# Altium footprint library ICs.PcbLib: 86 footprints (part 3 of 6)
Each footprint in its own frame and in the unit in brackets; x right, y up, seen from the top. Pads: shape width x height; smd on the part's side, far side on the other; paste and mask are expansions set on the pad; w line width, h text height; cw(c..) or ccw(c..) is an arc to the next point about the centre after c.
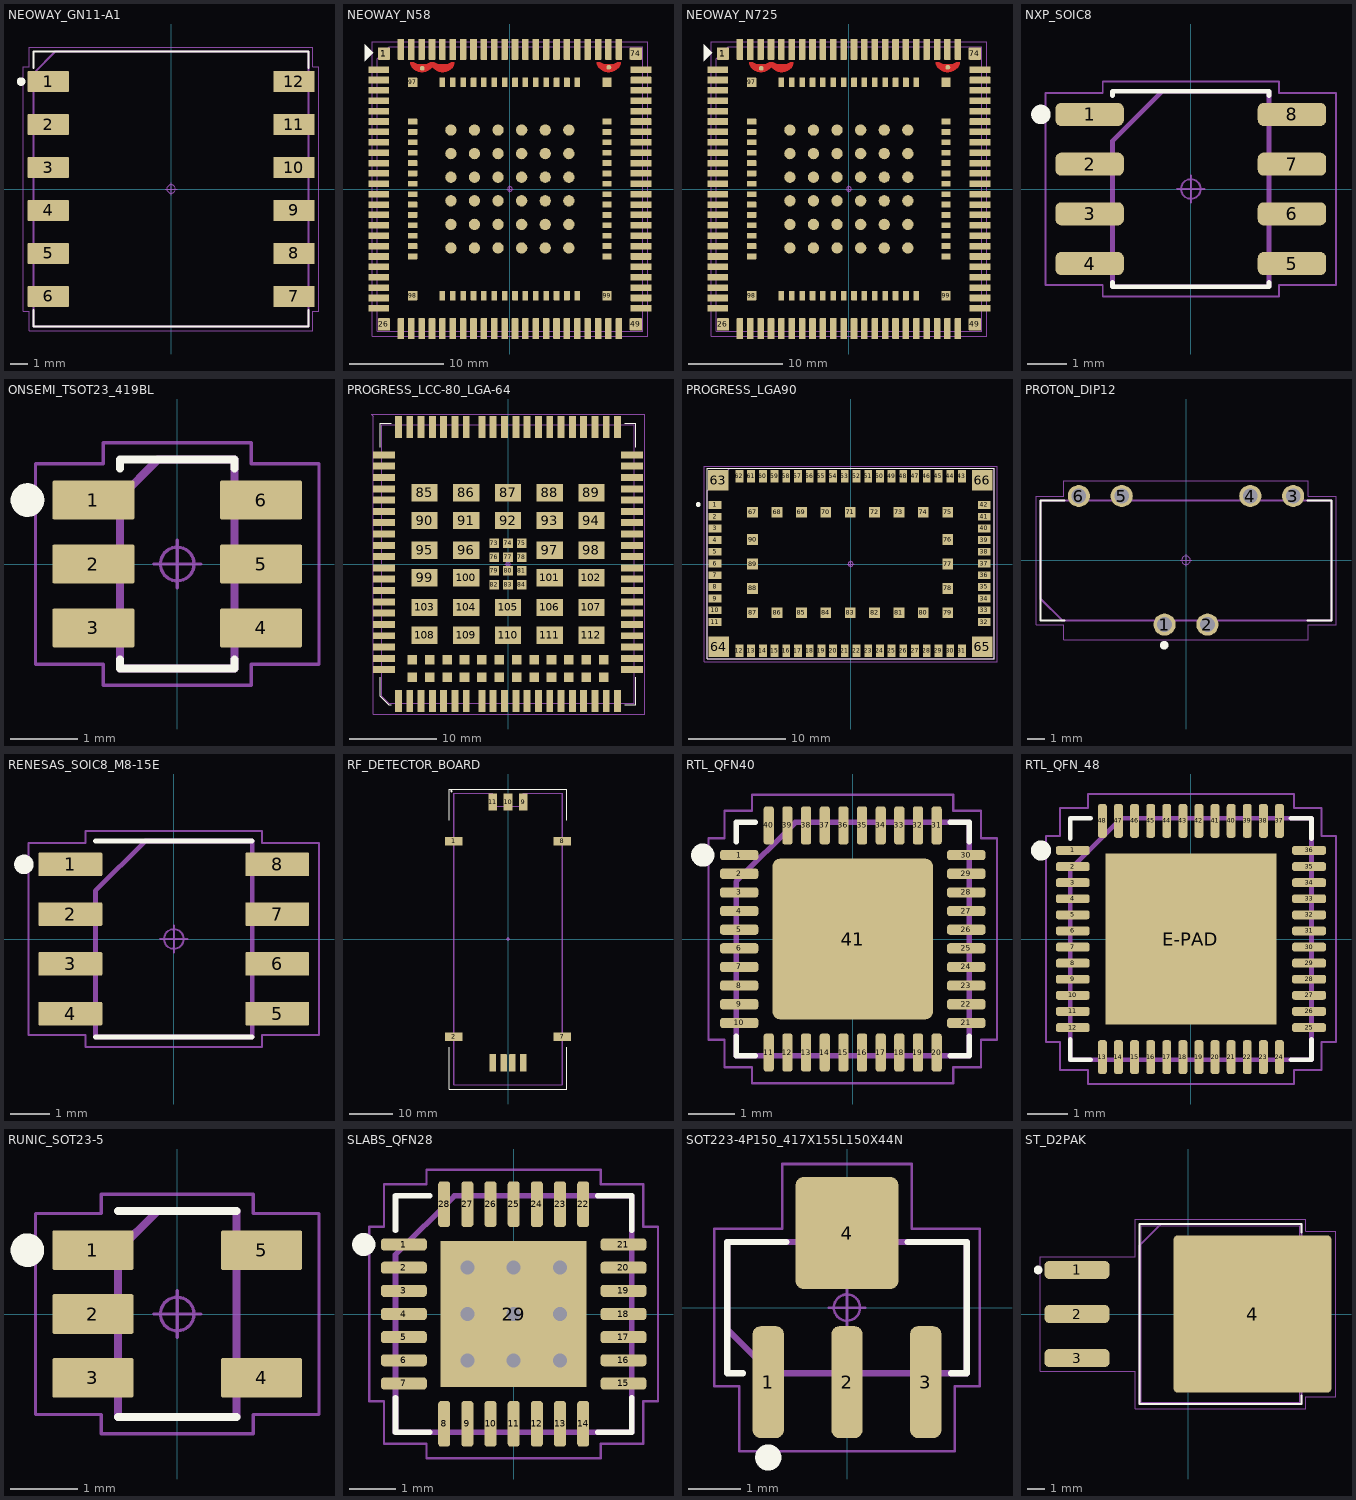
[diagram p2: the footprints below, top view; thin cyan lines are the x and y axes]

## NEOWAY_GN11-A1 [mm] "Small Outline No-Lead (SON), 2.50 mm pitch; 12 pin, 16.00 mm L X 16.00 mm W X 7.00 mm H body"
pads (12):
  rrect10% 2.41x1.23 smd: 1(-7.15,6.25) 2(-7.15,3.75) 3(-7.15,1.25) 4(-7.15,-1.25) 5(-7.15,-3.75) 6(-7.15,-6.25) 7(7.15,-6.25) 8(7.15,-3.75) 9(7.15,-1.25) 10(7.15,1.25) 11(7.15,3.75) 12(7.15,6.25)
Top Overlay:
  circle w0.25: c-8.725,6.25 r0.125
  lines w0.12: -8,-7.045 -8,-8 8,-8 8,-7.045 ; -8,7.045 -8,8 8,8 8,7.045
Mechanical 11:
  lines w0.12: -8,-8 -8,6.73 -6.73,8 8,8 8,-8 -8,-8
  text ".Designator" at -4.579,-0.46 h2.03
Mechanical 15:
  circle w0.05: c0,0 r0.25
  lines w0.05: -0.35,0 0.35,0 ; 0,-0.35 0,0.35 ; -8.605,-7.115 -8.605,7.115 -8.25,7.115 -8.25,8.25 8.25,8.25 8.25,7.115 8.605,7.115 8.605,-7.115 8.25,-7.115 8.25,-8.25 -8.25,-8.25 -8.25,-7.115 -8.605,-7.115
3D body "NEOWAY_GN11-A1.STEP": height 7, standoff 0, extent -8.05,-8 8.05,8

## NEOWAY_N58 [mm] "LGA modem"
height 2.65
pads (194):
  rrect10% 1.3x1.3 smd: 1(-13.35,14.35) 26(-13.35,-14.35) 49(13.35,-14.35) 74(13.35,14.35)
  rrect10% 2.2x0.7 smd: 2(-13.9,12.65) 3(-13.9,11.55) 4(-13.9,10.45) 5(-13.9,9.35) 6(-13.9,8.25) 7(-13.9,7.15) 8(-13.9,6.05) 9(-13.9,4.95) 10(-13.9,3.85) 11(-13.9,2.75) 12(-13.9,1.65) 13(-13.9,0.55) 14(-13.9,-0.55) 15(-13.9,-1.65) 16(-13.9,-2.75) 17(-13.9,-3.85) 18(-13.9,-4.95) 19(-13.9,-6.05) 20(-13.9,-7.15) 21(-13.9,-8.25) 22(-13.9,-9.35) 23(-13.9,-10.45) 24(-13.9,-11.55) 25(-13.9,-12.65) 50(13.9,-12.65) 51(13.9,-11.55) 52(13.9,-10.45) 53(13.9,-9.35) 54(13.9,-8.25) 55(13.9,-7.15) 56(13.9,-6.05) 57(13.9,-4.95) 58(13.9,-3.85) 59(13.9,-2.75) 60(13.9,-1.65) 61(13.9,-0.55) 62(13.9,0.55) 63(13.9,1.65) 64(13.9,2.75) 65(13.9,3.85) 66(13.9,4.95) 67(13.9,6.05) 68(13.9,7.15) 69(13.9,8.25) 70(13.9,9.35) 71(13.9,10.45) 72(13.9,11.55) 73(13.9,12.65)
  rrect10% 0.7x2.2 smd: 27(-11.55,-14.8) 28(-10.45,-14.8) 29(-9.35,-14.8) 30(-8.25,-14.8) 31(-7.15,-14.8) 32(-6.05,-14.8) 33(-4.95,-14.8) 34(-3.85,-14.8) 35(-2.75,-14.8) 36(-1.65,-14.8) 37(-0.55,-14.8) 38(0.55,-14.8) 39(1.65,-14.8) 40(2.75,-14.8) 41(3.85,-14.8) 42(4.95,-14.8) 43(6.05,-14.8) 44(7.15,-14.8) 45(8.25,-14.8) 46(9.35,-14.8) 47(10.45,-14.8) 48(11.55,-14.8) 75(11.55,14.8) 76(10.45,14.8) 77(9.35,14.8) 78(8.25,14.8) 79(7.15,14.8) 80(6.05,14.8) 81(4.95,14.8) 82(3.85,14.8) 83(2.75,14.8) 84(1.65,14.8) 85(0.55,14.8) 86(-0.55,14.8) 87(-1.65,14.8) 88(-2.75,14.8) 89(-3.85,14.8) 90(-4.95,14.8) 91(-6.05,14.8) 92(-7.15,14.8) 93(-8.25,14.8) 94(-9.35,14.8) 95(-10.45,14.8) 96(-11.55,14.8)
  rrect10% 1x1 smd paste-0.15: 97(-10.3,11.3) 98(-10.3,-11.3) 99(10.3,-11.3) 100(10.3,11.3)
  rrect10% 1x0.6 smd paste-0.05: 101(-10.3,7.15) 102(-10.3,6.05) 103(-10.3,4.95) 104(-10.3,3.85) 105(-10.3,2.75) 106(-10.3,1.65) 107(-10.3,0.55) 108(-10.3,-0.55) 109(-10.3,-1.65) 110(-10.3,-2.75) 111(-10.3,-3.85) 112(-10.3,-4.95) 113(-10.3,-6.05) 114(-10.3,-7.15) 129(10.3,-7.15) 130(10.3,-6.05) 131(10.3,-4.95) 132(10.3,-3.85) 133(10.3,-2.75) 134(10.3,-1.65) 135(10.3,-0.55) 136(10.3,0.55) 137(10.3,1.65) 138(10.3,2.75) 139(10.3,3.85) 140(10.3,4.95) 141(10.3,6.05) 142(10.3,7.15)
  rrect10% 0.6x1 smd paste-0.05: 115(-7.15,-11.3) 116(-6.05,-11.3) 117(-4.95,-11.3) 118(-3.85,-11.3) 119(-2.75,-11.3) 120(-1.65,-11.3) 121(-0.55,-11.3) 122(0.55,-11.3) 123(1.65,-11.3) 124(2.75,-11.3) 125(3.85,-11.3) 126(4.95,-11.3) 127(6.05,-11.3) 128(7.15,-11.3) 143(7.15,11.3) 144(6.05,11.3) 145(4.95,11.3) 146(3.85,11.3) 147(2.75,11.3) 148(1.65,11.3) 149(0.55,11.3) 150(-0.55,11.3) 151(-1.65,11.3) 152(-2.75,11.3) 153(-3.85,11.3) 154(-4.95,11.3) 155(-6.05,11.3) 156(-7.15,11.3)
  round 1.2 smd paste-0.15: 157(-6.25,6.25) 158(-6.25,3.75) 159(-6.25,1.25) 160(-6.25,-1.25) 161(-6.25,-3.75) 162(-6.25,-6.25) 163(-3.75,-6.25) 164(-1.25,-6.25) 165(1.25,-6.25) 166(3.75,-6.25) 167(6.25,-6.25) 168(6.25,-3.75) 169(6.25,-1.25) 170(6.25,1.25) 171(6.25,3.75) 172(6.25,6.25) 173(3.75,6.25) 174(1.25,6.25) 175(-1.25,6.25) 176(-3.75,6.25) 177(-3.75,3.75) 178(-3.75,1.25) 179(-3.75,-1.25) 180(-3.75,-3.75) 181(-1.25,-3.75) 182(1.25,-3.75) 183(3.75,-3.75) 184(3.75,-1.25) 185(3.75,1.25) 186(3.75,3.75) 187(1.25,3.75) 188(-1.25,3.75) 189(-1.25,1.25) 190(-1.25,-1.25) 191(1.25,-1.25) 192(1.25,1.25)
  round 0.5 smd paste-5: 193(-9.3,12.8) 194(10.5,12.9)
Top Layer:
  region: -10.57,13.43 -10.208,13.43 -10.105,13.377 -9.89,13.291 -9.666,13.233 -9.436,13.204 -9.204,13.204 -8.974,13.233 -8.75,13.291 -8.535,13.377 -8.432,13.43 -8.07,13.43 -8.07,13.22 -8.12,13.096 -8.268,12.874 -8.456,12.684 -8.678,12.535 -8.924,12.432 -9.186,12.38 -9.454,12.38 -9.716,12.432 -9.962,12.535 -10.184,12.684 -10.372,12.874 -10.52,13.096 -10.57,13.22
  region: -8.37,13.43 -8.008,13.43 -7.905,13.377 -7.69,13.291 -7.466,13.233 -7.236,13.204 -7.004,13.204 -6.774,13.233 -6.55,13.291 -6.335,13.377 -6.232,13.43 -5.87,13.43 -5.87,13.22 -5.92,13.096 -6.068,12.874 -6.256,12.684 -6.478,12.535 -6.724,12.432 -6.986,12.38 -7.254,12.38 -7.516,12.432 -7.762,12.535 -7.984,12.684 -8.172,12.874 -8.32,13.096 -8.37,13.22
  region: 9.23,13.43 9.592,13.43 9.695,13.377 9.91,13.291 10.134,13.233 10.364,13.204 10.596,13.204 10.826,13.233 11.05,13.291 11.265,13.377 11.368,13.43 11.73,13.43 11.73,13.22 11.68,13.096 11.532,12.874 11.344,12.684 11.122,12.535 10.876,12.432 10.614,12.38 10.346,12.38 10.084,12.432 9.838,12.535 9.616,12.684 9.428,12.874 9.28,13.096 9.23,13.22
Top Overlay:
  region: -14.495,14.445 -15.392,15.342 -15.392,13.548
Top Paste:
  rectangle: 9.833,12.61 11.067,13.11
  rectangle: -7.767,12.61 -6.533,13.11
  rectangle: -9.967,12.61 -8.733,13.11
Mechanical 11:
  lines w0.12: -14.08,-15.08 14.08,-15.08 14.08,15.08 -12.81,15.08 -14.08,13.81 -14.08,-15.08
  text ".Designator" at -6.763,-0.679 h3
Mechanical 15:
  circle w0.05: c0,0 r0.25
  lines w0.05: -0.35,0 0.35,0 ; 0,-0.35 0,0.35 ; -14.6,-15.6 14.6,-15.6 14.6,15.6 -14.6,15.6 -14.6,-15.6
3D body "N58.step": height 3, standoff 0, extent -14,-14.986 14,15.014
3D body: height 3.05, standoff 2.65, extent 7.7,10.6 11.2,13.1
3D body: height 3.05, standoff 2.65, extent 7.7,6.995 11.2,9.5
3D body: height 3.05, standoff 2.65, extent 9.2,4.5 11.2,6.5
3D body: height 3.05, standoff 2.65, extent 7.71,4.498 9.71,6.498

## NEOWAY_N725 [mm] "LGA-192 modem"
pads (194):
  rrect10% 1.3x1.3 smd: 1(-13.35,14.35) 26(-13.35,-14.35) 49(13.35,-14.35) 74(13.35,14.35)
  rrect10% 2.2x0.7 smd: 2(-13.9,12.65) 3(-13.9,11.55) 4(-13.9,10.45) 5(-13.9,9.35) 6(-13.9,8.25) 7(-13.9,7.15) 8(-13.9,6.05) 9(-13.9,4.95) 10(-13.9,3.85) 11(-13.9,2.75) 12(-13.9,1.65) 13(-13.9,0.55) 14(-13.9,-0.55) 15(-13.9,-1.65) 16(-13.9,-2.75) 17(-13.9,-3.85) 18(-13.9,-4.95) 19(-13.9,-6.05) 20(-13.9,-7.15) 21(-13.9,-8.25) 22(-13.9,-9.35) 23(-13.9,-10.45) 24(-13.9,-11.55) 25(-13.9,-12.65) 50(13.9,-12.65) 51(13.9,-11.55) 52(13.9,-10.45) 53(13.9,-9.35) 54(13.9,-8.25) 55(13.9,-7.15) 56(13.9,-6.05) 57(13.9,-4.95) 58(13.9,-3.85) 59(13.9,-2.75) 60(13.9,-1.65) 61(13.9,-0.55) 62(13.9,0.55) 63(13.9,1.65) 64(13.9,2.75) 65(13.9,3.85) 66(13.9,4.95) 67(13.9,6.05) 68(13.9,7.15) 69(13.9,8.25) 70(13.9,9.35) 71(13.9,10.45) 72(13.9,11.55) 73(13.9,12.65)
  rrect10% 0.7x2.2 smd: 27(-11.55,-14.8) 28(-10.45,-14.8) 29(-9.35,-14.8) 30(-8.25,-14.8) 31(-7.15,-14.8) 32(-6.05,-14.8) 33(-4.95,-14.8) 34(-3.85,-14.8) 35(-2.75,-14.8) 36(-1.65,-14.8) 37(-0.55,-14.8) 38(0.55,-14.8) 39(1.65,-14.8) 40(2.75,-14.8) 41(3.85,-14.8) 42(4.95,-14.8) 43(6.05,-14.8) 44(7.15,-14.8) 45(8.25,-14.8) 46(9.35,-14.8) 47(10.45,-14.8) 48(11.55,-14.8) 75(11.55,14.8) 76(10.45,14.8) 77(9.35,14.8) 78(8.25,14.8) 79(7.15,14.8) 80(6.05,14.8) 81(4.95,14.8) 82(3.85,14.8) 83(2.75,14.8) 84(1.65,14.8) 85(0.55,14.8) 86(-0.55,14.8) 87(-1.65,14.8) 88(-2.75,14.8) 89(-3.85,14.8) 90(-4.95,14.8) 91(-6.05,14.8) 92(-7.15,14.8) 93(-8.25,14.8) 94(-9.35,14.8) 95(-10.45,14.8) 96(-11.55,14.8)
  rrect10% 1x1 smd paste-0.15: 97(-10.3,11.3) 98(-10.3,-11.3) 99(10.3,-11.3) 100(10.3,11.3)
  rrect10% 1x0.6 smd paste-0.05: 101(-10.3,7.15) 102(-10.3,6.05) 103(-10.3,4.95) 104(-10.3,3.85) 105(-10.3,2.75) 106(-10.3,1.65) 107(-10.3,0.55) 108(-10.3,-0.55) 109(-10.3,-1.65) 110(-10.3,-2.75) 111(-10.3,-3.85) 112(-10.3,-4.95) 113(-10.3,-6.05) 114(-10.3,-7.15) 129(10.3,-7.15) 130(10.3,-6.05) 131(10.3,-4.95) 132(10.3,-3.85) 133(10.3,-2.75) 134(10.3,-1.65) 135(10.3,-0.55) 136(10.3,0.55) 137(10.3,1.65) 138(10.3,2.75) 139(10.3,3.85) 140(10.3,4.95) 141(10.3,6.05) 142(10.3,7.15)
  rrect10% 0.6x1 smd paste-0.05: 115(-7.15,-11.3) 116(-6.05,-11.3) 117(-4.95,-11.3) 118(-3.85,-11.3) 119(-2.75,-11.3) 120(-1.65,-11.3) 121(-0.55,-11.3) 122(0.55,-11.3) 123(1.65,-11.3) 124(2.75,-11.3) 125(3.85,-11.3) 126(4.95,-11.3) 127(6.05,-11.3) 128(7.15,-11.3) 143(7.15,11.3) 144(6.05,11.3) 145(4.95,11.3) 146(3.85,11.3) 147(2.75,11.3) 148(1.65,11.3) 149(0.55,11.3) 150(-0.55,11.3) 151(-1.65,11.3) 152(-2.75,11.3) 153(-3.85,11.3) 154(-4.95,11.3) 155(-6.05,11.3) 156(-7.15,11.3)
  round 1.2 smd paste-0.15: 157(-6.25,6.25) 158(-6.25,3.75) 159(-6.25,1.25) 160(-6.25,-1.25) 161(-6.25,-3.75) 162(-6.25,-6.25) 163(-3.75,-6.25) 164(-1.25,-6.25) 165(1.25,-6.25) 166(3.75,-6.25) 167(6.25,-6.25) 168(6.25,-3.75) 169(6.25,-1.25) 170(6.25,1.25) 171(6.25,3.75) 172(6.25,6.25) 173(3.75,6.25) 174(1.25,6.25) 175(-1.25,6.25) 176(-3.75,6.25) 177(-3.75,3.75) 178(-3.75,1.25) 179(-3.75,-1.25) 180(-3.75,-3.75) 181(-1.25,-3.75) 182(1.25,-3.75) 183(3.75,-3.75) 184(3.75,-1.25) 185(3.75,1.25) 186(3.75,3.75) 187(1.25,3.75) 188(-1.25,3.75) 189(-1.25,1.25) 190(-1.25,-1.25) 191(1.25,-1.25) 192(1.25,1.25)
  round 0.5 smd paste-5: 193(-9.3,12.8) 194(10.5,12.9)
Top Layer:
  region: 9.23,13.43 9.592,13.43 9.695,13.377 9.91,13.291 10.134,13.233 10.364,13.204 10.596,13.204 10.826,13.233 11.05,13.291 11.265,13.377 11.368,13.43 11.73,13.43 11.73,13.22 11.68,13.096 11.532,12.874 11.344,12.684 11.122,12.535 10.876,12.432 10.614,12.38 10.346,12.38 10.084,12.432 9.838,12.535 9.616,12.684 9.428,12.874 9.28,13.096 9.23,13.22
  region: -8.37,13.43 -8.008,13.43 -7.905,13.377 -7.69,13.291 -7.466,13.233 -7.236,13.204 -7.004,13.204 -6.774,13.233 -6.55,13.291 -6.335,13.377 -6.232,13.43 -5.87,13.43 -5.87,13.22 -5.92,13.096 -6.068,12.874 -6.256,12.684 -6.478,12.535 -6.724,12.432 -6.986,12.38 -7.254,12.38 -7.516,12.432 -7.762,12.535 -7.984,12.684 -8.172,12.874 -8.32,13.096 -8.37,13.22
  region: -10.57,13.43 -10.208,13.43 -10.105,13.377 -9.89,13.291 -9.666,13.233 -9.436,13.204 -9.204,13.204 -8.974,13.233 -8.75,13.291 -8.535,13.377 -8.432,13.43 -8.07,13.43 -8.07,13.22 -8.12,13.096 -8.268,12.874 -8.456,12.684 -8.678,12.535 -8.924,12.432 -9.186,12.38 -9.454,12.38 -9.716,12.432 -9.962,12.535 -10.184,12.684 -10.372,12.874 -10.52,13.096 -10.57,13.22
Top Overlay:
  region: -14.495,14.445 -15.392,15.342 -15.392,13.548
Top Paste:
  rectangle: -9.967,12.61 -8.733,13.11
  rectangle: -7.767,12.61 -6.533,13.11
  rectangle: 9.833,12.61 11.067,13.11
Mechanical 11:
  lines w0.12: -14.08,-15.08 -14.08,13.81 -12.81,15.08 14.08,15.08 14.08,-15.08 -14.08,-15.08
  text ".Designator" at -6.763,-0.679 h3
Mechanical 15:
  circle w0.05: c0,0 r0.25
  lines w0.05: -0.35,0 0.35,0 ; 0,-0.35 0,0.35 ; -14.6,-15.6 -14.6,15.6 14.6,15.6 14.6,-15.6 -14.6,-15.6
3D body: height 3.05, standoff 2.65, extent 7.85,7.464 11.35,9.818
3D body: height 3.05, standoff 2.65, extent 7.9,4.4 11.4,6.8
3D body: height 3.05, standoff 2.65, extent 7.9,1.095 11.4,3.6
3D body: height 3.05, standoff 2.65, extent 7.7,10.6 11.2,13.1
3D body "N58.step": height 3, standoff 0, extent -14,-14.986 14,15.014

## NXP_SOIC8 [mm] "Small Outline IC (SOIC), 1.27 mm pitch; 8 pin, 4.90 mm L X 3.90 mm W X 1.75 mm H body"
pads (8):
  rrect51% 1.75x0.59 smd: 1(-2.585,1.905) 2(-2.585,0.635) 3(-2.585,-0.635) 4(-2.585,-1.905) 5(2.585,-1.905) 6(2.585,-0.635) 7(2.585,0.635) 8(2.585,1.905)
Top Overlay:
  circle w0.25: c-3.83,1.905 r0.125
  lines w0.12: -2,-2.38 -2,-2.5 2,-2.5 2,-2.38 ; -2,2.38 -2,2.5 2,2.5 2,2.38
Mechanical 11:
  lines w0.12: -2,-2.5 -2,1.23 -0.73,2.5 2,2.5 2,-2.5 -2,-2.5
  text ".Designator" at -2.252,-0.226 h1
Mechanical 15:
  circle w0.05: c0,0 r0.25
  lines w0.05: -0.35,0 0.35,0 ; 0,-0.35 0,0.35 ; -3.71,-2.45 -3.71,2.45 -2.25,2.45 -2.25,2.75 2.25,2.75 2.25,2.45 3.71,2.45 3.71,-2.45 2.25,-2.45 2.25,-2.75 -2.25,-2.75 -2.25,-2.45 -3.71,-2.45
3D body "SOIC8P127_490X600X175L70X42.STEP": height 1.75, standoff 0, extent -3.1,-2.5 3.1,2.5

## ONSEMI_TSOT23_419BL [mm] "Small Outline Transistor (SOT23), 0.95 mm pitch; 6 pin, 2.95 mm L X 1.50 mm W X 1.10 mm H body"
pads (6):
  rrect10% 1.22x0.58 smd: 1(-1.245,0.95) 2(-1.245,0) 3(-1.245,-0.95) 4(1.245,-0.95) 5(1.245,0) 6(1.245,0.95)
Top Overlay:
  circle w0.25: c-2.225,0.95 r0.125
  lines w0.12: -0.85,-1.42 -0.85,-1.55 0.85,-1.55 0.85,-1.42 ; -0.85,1.42 -0.85,1.55 0.85,1.55 0.85,1.42
Mechanical 11:
  lines w0.12: -0.85,-1.55 -0.85,0.983 -0.283,1.55 0.85,1.55 0.85,-1.55 -0.85,-1.55
  text ".Designator" at -2.252,-0.226 h1
Mechanical 15:
  circle w0.05: c0,0 r0.25
  lines w0.05: -0.35,0 0.35,0 ; 0,-0.35 0,0.35 ; -2.105,-1.49 -2.105,1.49 -1.1,1.49 -1.1,1.8 1.1,1.8 1.1,1.49 2.105,1.49 2.105,-1.49 1.1,-1.49 1.1,-1.8 -1.1,-1.8 -1.1,-1.49 -2.105,-1.49
3D body "ONSEMI_TSOT23_419B.STEP": height 1.1, standoff 0, extent -1.5,-1.55 1.5,1.55

## PROGRESS_LCC-80_LGA-64 [mm] "Посадочное место для 4G LTE модема ПОГРЕСС ПР1603"
pads (144):
  rect 0.8x2.5 smd: 1(-12.6,-15.75) 2(-11.3,-15.75) 3(-10,-15.75) 4(-8.7,-15.75) 5(-7.4,-15.75) 6(-6.1,-15.75) 7(-4.8,-15.75) 8(-0.4,-15.75) 9(0.9,-15.75) 10(2.2,-15.75) 11(3.5,-15.75) 12(4.8,-15.75) 13(6.1,-15.75) 14(7.4,-15.75) 15(8.7,-15.75) 16(10,-15.75) 17(11.3,-15.75) 18(12.6,-15.75) 37(12.6,15.75) 38(11.3,15.75) 39(10,15.75) 40(8.7,15.75) 41(7.4,15.75) 42(6.1,15.75) 43(4.8,15.75) 44(3.5,15.75) 45(2.2,15.75) 46(0.9,15.75) 47(-0.4,15.75) 48(-4.8,15.75) 49(-6.1,15.75) 50(-7.4,15.75) 51(-8.7,15.75) 52(-10,15.75) 53(-11.3,15.75) 54(-12.6,15.75) 141(-3,-15.75) 142(-1.7,-15.75) 143(-1.7,15.75) 144(-3,15.75)
  rect 2.5x0.8 smd: 19(14.25,-9.55) 20(14.25,-8.25) 21(14.25,-6.95) 22(14.25,-5.65) 23(14.25,-4.35) 24(14.25,-3.05) 25(14.25,-1.75) 26(14.25,-0.45) 27(14.25,0.85) 28(14.25,2.15) 29(14.25,3.45) 30(14.25,4.75) 31(14.25,6.05) 32(14.25,7.35) 33(14.25,8.65) 34(14.25,9.95) 35(14.25,11.25) 36(14.25,12.55) 55(-14.25,12.55) 56(-14.25,11.25) 57(-14.25,9.95) 58(-14.25,8.65) 59(-14.25,7.35) 60(-14.25,6.05) 61(-14.25,4.75) 62(-14.25,3.45) 63(-14.25,2.15) 64(-14.25,0.85) 65(-14.25,-0.45) 66(-14.25,-1.75) 67(-14.25,-3.05) 68(-14.25,-4.35) 69(-14.25,-5.65) 70(-14.25,-6.95) 71(-14.25,-8.25) 72(-14.25,-9.55) 113(-14.25,-10.85) 114(-14.25,-12.15) 115(14.25,-10.85) 116(14.25,-12.15)
  rect 1.1x1.1 smd paste-2539.97 mask+0.1: 73(-1.6,2.4) 74(0,2.4) 75(1.6,2.4) 76(-1.6,0.8) 77(0,0.8) 78(1.6,0.8) 79(-1.6,-0.8) 80(0,-0.8) 81(1.6,-0.8) 82(-1.6,-2.4) 83(0,-2.4) 84(1.6,-2.4) 117(-11,-11) 118(-9,-11) 119(-7,-11) 120(-5,-11) 121(-3,-11) 122(-1,-11) 123(1,-11) 124(3,-11) 125(5,-11) 126(7,-11) 127(9,-11) 128(11,-11) 129(-11,-13) 130(-9,-13) 131(-7,-13) 132(-5,-13) 133(-3,-13) 134(-1,-13) 135(1,-13) 136(3,-13) 137(5,-13) 138(7,-13) 139(9,-13) 140(11,-13)
  rect 3x2 smd: 85(-9.6,8.2) 86(-4.8,8.2) 87(0,8.2) 88(4.8,8.2) 89(9.6,8.2) 90(-9.6,5) 91(-4.8,5) 92(0,5) 93(4.8,5) 94(9.6,5) 95(-9.6,1.6) 96(-4.8,1.6) 97(4.8,1.6) 98(9.6,1.6) 99(-9.6,-1.6) 100(-4.8,-1.6) 101(4.8,-1.6) 102(9.6,-1.6) 103(-9.6,-5) 104(-4.8,-5) 105(0,-5) 106(4.8,-5) 107(9.6,-5) 108(-9.6,-8.2) 109(-4.8,-8.2) 110(0,-8.2) 111(4.8,-8.2) 112(9.6,-8.2)
Top Overlay:
  lines w0.12: -14.714,-13 -14.714,-15.186 -13.714,-16.186 -13.4,-16.186 ; -14.7,13.4 -14.7,16.165 -13.4,16.165 ; 13.4,-16.2 14.7,-16.2 14.7,-13 ; 13.4,16.2 14.7,16.2 14.7,13.4
Mechanical 11:
  lines w0.12: -14.5,-15.2 -14.5,16 14.5,16 14.5,-16 -13.7,-16 -14.5,-15.2
  text ".Designator" at -2.252,-0.226 h1
Mechanical 15:
  circle w0.05: c0,0 r0.25
  lines w0.05: -0.35,0 0.35,0 ; 0,-0.35 0,0.35 ; -15.75,17.25 15.75,17.25 15.75,-17.25 -15.5,-17.25 -15.5,17 -15.75,17.25
3D body "PR1803.stp": height 2.35, standoff 0, extent -14.5,-16 14.5,16
3D body: height 2.35, standoff 2.35, extent -11.85,-14.75 11.85,14.75

## PROGRESS_LGA90 [mm]
pads (90):
  rect 1.3x0.8 smd: 1(-13.9,6.05) 2(-13.9,4.85) 3(-13.9,3.65) 4(-13.9,2.45) 5(-13.9,1.25) 6(-13.9,0.05) 7(-13.9,-1.15) 8(-13.9,-2.35) 9(-13.9,-3.55) 10(-13.9,-4.75) 11(-13.9,-5.95) 32(13.7,-5.95) 33(13.7,-4.75) 34(13.7,-3.55) 35(13.7,-2.35) 36(13.7,-1.15) 37(13.7,0.05) 38(13.7,1.25) 39(13.7,2.45) 40(13.7,3.65) 41(13.7,4.85) 42(13.7,6.05)
  rect 0.8x1.3 smd: 12(-11.4,-8.9) 13(-10.2,-8.9) 14(-9,-8.9) 15(-7.8,-8.9) 16(-6.6,-8.9) 17(-5.4,-8.9) 18(-4.2,-8.9) 19(-3,-8.9) 20(-1.8,-8.9) 21(-0.6,-8.9) 22(0.6,-8.9) 23(1.8,-8.9) 24(3,-8.9) 25(4.2,-8.9) 26(5.4,-8.9) 27(6.6,-8.9) 28(7.8,-8.9) 29(9,-8.9) 30(10.2,-8.9) 31(11.4,-8.9) 43(11.4,9) 44(10.2,9) 45(9,9) 46(7.8,9) 47(6.6,9) 48(5.4,9) 49(4.2,9) 50(3,9) 51(1.8,9) 52(0.6,9) 53(-0.6,9) 54(-1.8,9) 55(-3,9) 56(-4.2,9) 57(-5.4,9) 58(-6.6,9) 59(-7.8,9) 60(-9,9) 61(-10.2,9) 62(-11.4,9)
  rect 2.1x2.1 smd: 63(-13.55,8.6) 64(-13.5,-8.5) 65(13.5,-8.5) 66(13.5,8.6)
  rect 1.1x1.1 smd: 67(-10.05,5.3) 68(-7.55,5.3) 69(-5.05,5.3) 70(-2.55,5.3) 71(-0.05,5.3) 72(2.45,5.3) 73(4.95,5.3) 74(7.45,5.3) 75(9.95,5.3) 76(9.95,2.5) 77(9.95,0) 78(9.95,-2.5) 79(9.95,-5) 80(7.45,-5) 81(4.95,-5) 82(2.45,-5) 83(-0.05,-5) 84(-2.55,-5) 85(-5.05,-5) 86(-7.55,-5) 87(-10.05,-5) 88(-10.05,-2.5) 89(-10.05,0) 90(-10.05,2.5)
Top Overlay:
  circle w0.25: c-15.625,6.105 r0.125
  lines w0.12: -14.7,-9.7 14.7,-9.7 14.7,9.8 -14.7,9.8 -14.7,-9.7
Mechanical 11:
  lines w0.12: -14.7,-9.7 -14.7,7.5 -12.4,9.8 14.7,9.8 14.7,-9.7 -14.7,-9.7
  text ".Designator" at -4.511,-0.453 h2
Mechanical 15:
  circle w0.05: c0,0 r0.25
  lines w0.05: -0.35,0 0.35,0 ; 0,-0.35 0,0.35 ; -15,-10 -15,10 15,10 15,-10 -15,-10
3D body: height 0.25, standoff 0, extent -14.475,-9.525 14.35,9.425

## PROTON_DIP12 [mm] "DIP, 7.50 mm lead span, 2.50 mm pitch; 12 pin, 17.00 mm L X 7.00 mm W X 5.70 mm H body"
pads (6):
  round 1.29 hole 0.86 paste-2539.97: 1(-1.25,-3.75) 2(1.25,-3.75) 3(6.25,3.75) 4(3.75,3.75) 5(-3.75,3.75) 6(-6.25,3.75)
Top Overlay:
  circle w0.25: c-1.27,-4.953 r0.125
  lines w0.12: -7.08,-3.5 -8.5,-3.5 -8.5,3.5 -7.08,3.5 ; 7.08,-3.5 8.5,-3.5 8.5,3.5 7.08,3.5
Mechanical 11:
  lines w0.12: -8.5,-2.23 -8.5,3.5 8.5,3.5 8.5,-3.5 -7.23,-3.5 -8.5,-2.23
  text ".Designator" at -4.384,-0.386 h2
Mechanical 15:
  circle w0.05: c0,0 r0.25
  lines w0.05: -0.35,0 0.35,0 ; 0,-0.35 0,0.35 ; -8.75,-3.75 -7.145,-3.75 -7.145,-4.645 7.145,-4.645 7.145,-3.75 8.75,-3.75 8.75,3.75 7.145,3.75 7.145,4.645 -7.145,4.645 -7.145,3.75 -8.75,3.75 -8.75,-3.75
3D body "DIP750W55P250L1700H570Q12.STEP": height 5.7, standoff -2, extent -8.5,-3.92 8.5,3.92

## RENESAS_SOIC8_M8-15E [mm] "Small Outline IC (SOIC), 1.27 mm pitch; 8 pin, 4.90 mm L X 3.90 mm W X 1.75 mm H body"
pads (8):
  rrect10% 1.63x0.6 smd: 1(-2.64,1.905) 2(-2.64,0.635) 3(-2.64,-0.635) 4(-2.64,-1.905) 5(2.64,-1.905) 6(2.64,-0.635) 7(2.64,0.635) 8(2.64,1.905)
Top Overlay:
  circle w0.25: c-3.825,1.905 r0.125
  lines w0.12: -2,-2.5 2,-2.5 ; -2,2.5 2,2.5
Mechanical 11:
  lines w0.12: -2,-2.5 -2,1.23 -0.73,2.5 2,2.5 2,-2.5 -2,-2.5
  text ".Designator" at -2.252,-0.226 h1
Mechanical 15:
  circle w0.05: c0,0 r0.25
  lines w0.05: -0.35,0 0.35,0 ; 0,-0.35 0,0.35 ; -3.705,-2.455 -3.705,2.455 -2.25,2.455 -2.25,2.75 2.25,2.75 2.25,2.455 3.705,2.455 3.705,-2.455 2.25,-2.455 2.25,-2.75 -2.25,-2.75 -2.25,-2.455 -3.705,-2.455
3D body "RENESAS_SOIC8_M8-15E.STEP": height 1.75, standoff 0, extent -3.1,-2.5 3.1,2.5

## RF_DETECTOR_BOARD [mm] "11 pin, 67mm L X 24 mm ody"
pads (11):
  rrect10% 4x2 smd: 1(-12.5,22.5) 2(-12.5,-22.5) 7(12.5,-22.5) 8(12.5,22.5)
  rrect10% 1.5x4 smd: 3(-3.5,-28.5) 4(-1,-28.5) 5(1,-28.5) 6(3.5,-28.5)
  rrect10% 2x4 smd: 9(3.5,31.5) 10(0,31.5) 11(-3.5,31.5)
Top Overlay:
  circle w0.25: c-13,34 r0.125
  lines w0.12: -13.5,-24.923 -13.5,-34.5 13.5,-34.5 13.5,-24.923 ; -13.5,27.365 -13.5,34.5 13.5,34.5 13.5,27.365
Mechanical 11:
  lines w0.12: -12.5,-33.5 12.5,-33.5 12.5,33.5 3.5,33.5 3.5,30.5 -3.5,30.5 -3.5,33.5 -12.5,33.5 -12.5,-33.5
  text ".Designator" at -4.579,-0.46 h2.03
Mechanical 15:
  circle w0.05: c0,0 r0.25
  lines w0.05: -12.5,33.5 -12.5,8.455 -12.5,-5.28 -12.5,-33.5 12.5,-33.5 12.5,-7.115 12.5,4.575 12.5,33.5 ; -0.35,0 0.35,0 ; 0,-0.35 0,0.35
  lines w0.12: -12.5,33.5 -3.5,33.5 -3.5,30.5 3.5,30.5 3.5,33.5 12.5,33.5
3D body: height 2.54, standoff -2.54, extent -11,-32 11,31.5

## RTL_QFN40 [mm]
pads (41):
  rrect55% 0.82x0.22 smd: 1(-2.435,1.8) 2(-2.435,1.4) 3(-2.435,1) 4(-2.435,0.6) 5(-2.435,0.2) 6(-2.435,-0.2) 7(-2.435,-0.6) 8(-2.435,-1) 9(-2.435,-1.4) 10(-2.435,-1.8) 21(2.435,-1.8) 22(2.435,-1.4) 23(2.435,-1) 24(2.435,-0.6) 25(2.435,-0.2) 26(2.435,0.2) 27(2.435,0.6) 28(2.435,1) 29(2.435,1.4) 30(2.435,1.8)
  rrect55% 0.22x0.82 smd: 11(-1.8,-2.435) 12(-1.4,-2.435) 13(-1,-2.435) 14(-0.6,-2.435) 15(-0.2,-2.435) 16(0.2,-2.435) 17(0.6,-2.435) 18(1,-2.435) 19(1.4,-2.435) 20(1.8,-2.435) 31(1.8,2.435) 32(1.4,2.435) 33(1,2.435) 34(0.6,2.435) 35(0.2,2.435) 36(-0.2,2.435) 37(-0.6,2.435) 38(-1,2.435) 39(-1.4,2.435) 40(-1.8,2.435)
  rrect10% 3.45x3.45 smd paste-2.5: 41(0,0)
Top Overlay:
  circle w0.25: c-3.215,1.8 r0.125
  lines w0.12: -2.5,-2.09 -2.5,-2.5 -2.09,-2.5 ; -2.5,2.09 -2.5,2.5 -2.09,2.5 ; 2.09,-2.5 2.5,-2.5 2.5,-2.09 ; 2.09,2.5 2.5,2.5 2.5,2.09
Mechanical 11:
  lines w0.12: -2.5,-2.5 2.5,-2.5 2.5,2.5 -1.23,2.5 -2.5,1.23 -2.5,-2.5
  text ".Designator" at -2.252,-0.226 h1
Mechanical 15:
  circle w0.05: c0,0 r0.25
  lines w0.05: -0.35,0 0.35,0 ; 0,-0.35 0,0.35 ; -3.095,-2.16 -2.75,-2.16 -2.75,-2.75 -2.16,-2.75 -2.16,-3.095 2.16,-3.095 2.16,-2.75 2.75,-2.75 2.75,-2.16 3.095,-2.16 3.095,2.16 2.75,2.16 2.75,2.75 2.16,2.75 2.16,3.095 -2.16,3.095 -2.16,2.75 -2.75,2.75 -2.75,2.16 -3.095,2.16 -3.095,-2.16
3D body "QFN40P40_500X500X90L40X20.STEP": height 0.9, standoff 0, extent -2.55,-2.55 2.55,2.55

## RTL_QFN_48 [mm]
pads (49):
  rrect55% 0.84x0.22 smd: 1(-2.935,2.2) 2(-2.935,1.8) 3(-2.935,1.4) 4(-2.935,1) 5(-2.935,0.6) 6(-2.935,0.2) 7(-2.935,-0.2) 8(-2.935,-0.6) 9(-2.935,-1) 10(-2.935,-1.4) 11(-2.935,-1.8) 12(-2.935,-2.2) 25(2.935,-2.2) 26(2.935,-1.8) 27(2.935,-1.4) 28(2.935,-1) 29(2.935,-0.6) 30(2.935,-0.2) 31(2.935,0.2) 32(2.935,0.6) 33(2.935,1) 34(2.935,1.4) 35(2.935,1.8) 36(2.935,2.2)
  rrect55% 0.22x0.84 smd: 13(-2.2,-2.935) 14(-1.8,-2.935) 15(-1.4,-2.935) 16(-1,-2.935) 17(-0.6,-2.935) 18(-0.2,-2.935) 19(0.2,-2.935) 20(0.6,-2.935) 21(1,-2.935) 22(1.4,-2.935) 23(1.8,-2.935) 24(2.2,-2.935) 37(2.2,2.935) 38(1.8,2.935) 39(1.4,2.935) 40(1,2.935) 41(0.6,2.935) 42(0.2,2.935) 43(-0.2,2.935) 44(-0.6,2.935) 45(-1,2.935) 46(-1.4,2.935) 47(-1.8,2.935) 48(-2.2,2.935)
  rect 4.25x4.25 smd paste-2.5: E-PAD(0,0)
Top Overlay:
  circle w0.25: c-3.725,2.2 r0.125
  lines w0.12: -3,-2.49 -3,-3 -2.49,-3 ; -3,2.49 -3,3 -2.49,3 ; 2.49,-3 3,-3 3,-2.49 ; 2.49,3 3,3 3,2.49
Mechanical 11:
  lines w0.12: -3,-3 -3,1.73 -1.73,3 3,3 3,-3 -3,-3
  text ".Designator" at -2.252,-0.193 h1
Mechanical 15:
  circle w0.05: c0,0 r0.25
  lines w0.05: -0.35,0 0.35,0 ; 0,-0.35 0,0.35 ; -3.605,-2.56 -3.605,2.56 -3.25,2.56 -3.25,3.25 -2.56,3.25 -2.56,3.605 2.56,3.605 2.56,3.25 3.25,3.25 3.25,2.56 3.605,2.56 3.605,-2.56 3.25,-2.56 3.25,-3.25 2.56,-3.25 2.56,-3.605 -2.56,-3.605 -2.56,-3.25 -3.25,-3.25 -3.25,-2.56 -3.605,-2.56
3D body "QFN48P40_600X600X100L40X20.STEP": height 1, standoff 0, extent -3.05,-3.05 3.05,3.05

## RUNIC_SOT23-5 [mm] "RUNIC_SOT23-5"
pads (5):
  rrect10% 1.21x0.59 smd: 1(-1.255,0.95) 2(-1.255,0) 3(-1.255,-0.95) 4(1.255,-0.95) 5(1.255,0.95)
Top Overlay:
  circle w0.25: c-2.23,0.95 r0.125
  lines w0.12: -0.88,-1.53 0.88,-1.53 ; -0.88,1.53 0.88,1.53
Mechanical 11:
  lines w0.12: -0.88,-1.53 0.88,-1.53 0.88,1.53 -0.293,1.53 -0.88,0.943 -0.88,-1.53
  text ".Designator" at 0.226,-2.252 h1
Mechanical 15:
  circle w0.05: c0,0 r0.25
  lines w0.05: -0.35,0 0.35,0 ; 0,-0.35 0,0.35 ; -2.11,-1.495 -1.13,-1.495 -1.13,-1.78 1.13,-1.78 1.13,-1.495 2.11,-1.495 2.11,1.495 1.13,1.495 1.13,1.78 -1.13,1.78 -1.13,1.495 -2.11,1.495 -2.11,-1.495
3D body "TI_SOT23-5_DBV.STEP": height 1.45, standoff 0, extent -1.5,-1.525 1.5,1.525

## SLABS_QFN28 [mm] "Quad Flat No-Lead (QFN with Tab), 0.50 mm pitch; square, 7 pin X 7 pin, 5.00 mm L X 5.00 mm W X 1.00 mm H body"
pads (29):
  rrect54% 0.99x0.26 smd: 1(-2.37,1.5) 2(-2.37,1) 3(-2.37,0.5) 4(-2.37,0) 5(-2.37,-0.5) 6(-2.37,-1) 7(-2.37,-1.5) 15(2.37,-1.5) 16(2.37,-1) 17(2.37,-0.5) 18(2.37,0) 19(2.37,0.5) 20(2.37,1) 21(2.37,1.5)
  rrect54% 0.26x0.99 smd: 8(-1.5,-2.37) 9(-1,-2.37) 10(-0.5,-2.37) 11(0,-2.37) 12(0.5,-2.37) 13(1,-2.37) 14(1.5,-2.37) 22(1.5,2.37) 23(1,2.37) 24(0.5,2.37) 25(0,2.37) 26(-0.5,2.37) 27(-1,2.37) 28(-1.5,2.37)
  rect 3.15x3.15 smd paste-3.15: 29(0,0)
via 1,-1 diameter 0.6 hole 0.3
via 0,-1 diameter 0.6 hole 0.3
via -1,-1 diameter 0.6 hole 0.3
via -1,0 diameter 0.6 hole 0.3
via 1,0 diameter 0.6 hole 0.3
via 1,1 diameter 0.6 hole 0.3
via 0,1 diameter 0.6 hole 0.3
via -1,1 diameter 0.6 hole 0.3
via 0,0 diameter 0.6 hole 0.3
Top Overlay:
  circle w0.25: c-3.235,1.5 r0.125
  lines w0.12: -2.55,-1.81 -2.55,-2.55 -1.81,-2.55 ; -2.55,1.81 -2.55,2.55 -1.81,2.55 ; 1.81,-2.55 2.55,-2.55 2.55,-1.81 ; 1.81,2.55 2.55,2.55 2.55,1.81
Top Paste:
  region: 0.155,0.155 0.155,1.265 1.265,1.265 1.265,0.155
  region: -1.265,0.155 -1.265,1.265 -0.155,1.265 -0.155,0.155
  region: 0.155,-1.265 0.155,-0.155 1.265,-0.155 1.265,-1.265
  region: -1.265,-1.265 -1.265,-0.155 -0.155,-0.155 -0.155,-1.265
Mechanical 11:
  lines w0.12: -2.55,-2.55 2.55,-2.55 2.55,2.55 -1.28,2.55 -2.55,1.28 -2.55,-2.55
  text ".Designator" at -2.252,-0.226 h1
Mechanical 15:
  circle w0.05: c0,0 r0.25
  lines w0.05: -0.35,0 0.35,0 ; 0,-0.35 0,0.35 ; -3.115,-1.88 -2.8,-1.88 -2.8,-2.8 -1.88,-2.8 -1.88,-3.115 1.88,-3.115 1.88,-2.8 2.8,-2.8 2.8,-1.88 3.115,-1.88 3.115,1.88 2.8,1.88 2.8,2.8 1.88,2.8 1.88,3.115 -1.88,3.115 -1.88,2.8 -2.8,2.8 -2.8,1.88 -3.115,1.88 -3.115,-1.88
3D body "SLABS_QFN28.STEP": height 1, standoff 0, extent -2.6,-2.6 2.6,2.6

## SOT223-4P150_417X155L150X44N [mm] "Small Outline Transistor (SOT223), 1.50 mm pitch; 4 pin, 4.50 mm L X 2.45 mm W X 1.55 mm H body"
pads (4):
  rrect50% 0.6x2.13 smd: 1(-1.5,-1.42) 2(0,-1.42) 3(1.5,-1.42)
  rrect15% 1.96x2.13 smd: 4(0,1.42)
Top Overlay:
  circle w0.25: c-1.5,-2.855 r0.125
  lines w0.12: -1.98,-1.25 -2.28,-1.25 -2.28,1.25 -1.16,1.25 ; 1.16,1.25 2.28,1.25 2.28,-1.25 1.98,-1.25
Mechanical 11:
  lines w0.12: -2.28,-0.417 -2.28,1.25 2.28,1.25 2.28,-1.25 -1.447,-1.25 -2.28,-0.417
  text ".Designator" at -2.252,-0.226 h1
Mechanical 15:
  circle w0.05: c0,0 r0.25
  lines w0.05: -0.35,0 0.35,0 ; 0,-0.35 0,0.35 ; -2.53,-1.5 -2.05,-1.5 -2.05,-2.735 2.05,-2.735 2.05,-1.5 2.53,-1.5 2.53,1.5 1.23,1.5 1.23,2.735 -1.23,2.735 -1.23,1.5 -2.53,1.5 -2.53,-1.5
3D body "SOT223-4P150_417X155L150X44.STEP": height 1.55, standoff 0, extent -2.28,-2.105 2.28,2.105

## ST_D2PAK [mm]
pads (4):
  rrect49% 3.74x1.02 smd: 1(-6.41,2.54) 2(-6.41,0) 3(-6.41,-2.54)
  rrect6% 9.13x9.07 smd paste-9.13: 4(3.71,0)
Top Overlay:
  circle w0.25: c-8.65,2.54 r0.125
  lines w0.12: 6.545,-4.715 6.545,-5.2 -2.815,-5.2 -2.815,5.2 6.545,5.2 6.545,4.715
Top Paste:
  region: -0.575,-4.26 -0.575,-2.98 0.715,-2.98 0.715,-4.26
  region: 1.245,-4.26 1.245,-2.98 2.535,-2.98 2.535,-4.26
  region: 3.065,-4.26 3.065,-2.98 4.355,-2.98 4.355,-4.26
  region: 4.885,-4.26 4.885,-2.98 6.175,-2.98 6.175,-4.26
  region: 6.705,-4.26 6.705,-2.98 7.995,-2.98 7.995,-4.26
  region: -0.575,-2.45 -0.575,-1.17 0.715,-1.17 0.715,-2.45
  region: 1.245,-2.45 1.245,-1.17 2.535,-1.17 2.535,-2.45
  region: 3.065,-2.45 3.065,-1.17 4.355,-1.17 4.355,-2.45
  region: 4.885,-2.45 4.885,-1.17 6.175,-1.17 6.175,-2.45
  region: 6.705,-2.45 6.705,-1.17 7.995,-1.17 7.995,-2.45
  region: -0.575,-0.64 -0.575,0.64 0.715,0.64 0.715,-0.64
  region: 1.245,-0.64 1.245,0.64 2.535,0.64 2.535,-0.64
  region: 3.065,-0.64 3.065,0.64 4.355,0.64 4.355,-0.64
  region: 4.885,-0.64 4.885,0.64 6.175,0.64 6.175,-0.64
  region: 6.705,-0.64 6.705,0.64 7.995,0.64 7.995,-0.64
  region: -0.575,1.17 -0.575,2.45 0.715,2.45 0.715,1.17
  region: 1.245,1.17 1.245,2.45 2.535,2.45 2.535,1.17
  region: 3.065,1.17 3.065,2.45 4.355,2.45 4.355,1.17
  region: 4.885,1.17 4.885,2.45 6.175,2.45 6.175,1.17
  region: 6.705,1.17 6.705,2.45 7.995,2.45 7.995,1.17
  region: -0.575,2.98 -0.575,4.26 0.715,4.26 0.715,2.98
  region: 1.245,2.98 1.245,4.26 2.535,4.26 2.535,2.98
  region: 3.065,2.98 3.065,4.26 4.355,4.26 4.355,2.98
  region: 4.885,2.98 4.885,4.26 6.175,4.26 6.175,2.98
  region: 6.705,2.98 6.705,4.26 7.995,4.26 7.995,2.98
Mechanical 11:
  lines w0.12: -2.815,-5.2 -2.815,3.93 -1.545,5.2 6.545,5.2 6.545,-5.2 -2.815,-5.2
  text ".Designator" at -2.252,0.188 h1
Mechanical 12:
  lines w0.025: -2.71,-5.1 -2.71,5.1 6.44,5.1 6.44,-5.1 -2.71,-5.1
Mechanical 15:
  circle w0.05: c0,0 r0.25
  lines w0.05: -0.35,0 0.35,0 ; 0,-0.35 0,0.35 ; -8.53,-3.3 -8.53,3.3 -3.06,3.3 -3.06,5.45 6.79,5.45 6.79,4.785 8.525,4.785 8.525,-4.785 6.79,-4.785 6.79,-5.45 -3.06,-5.45 -3.06,-3.3 -8.53,-3.3
3D body "DPAK4P254_1542X460L254X81T800X890.STEP": height 4.6, standoff 0, extent -7.712,-5.1 7.712,5.1